# EAGLE library part 62001621821 (library Wurth_Elektronik2)
WR-PHD 2.00mm Dual Socket Header, 16 Pins=>Code : Con_BTB_SHD_2.00_2_62001621821 <http://katalog.we-online.de/media/thumbs2/eican/thb_Con_BTB_SHD_2.00_2_6200xx21821_pf2.jpg> Details see: http://katalog.we-online.de/en/em/620_0xx_218_21 Created 2014-06-03, Karrer Zheng 2014 (C) Würth Elektronik
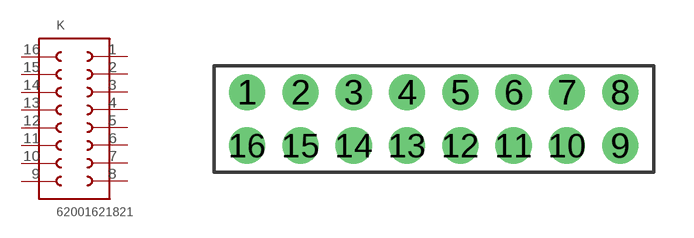
[diagram p259: symbol with the pads of 62001621821; footprint 62001621821]

Designator prefix K

## 62001621821  [62001621821]
1  1  pas
2  2  pas
3  3  pas
4  4  pas
5  5  pas
6  6  pas
7  7  pas
8  8  pas
9  9  pas
10  10  pas
11  11  pas
12  12  pas
13  13  pas
14  14  pas
15  15  pas
16  16  pas

## Footprint 62001621821 (pad centres in mm)
WR-PHD 2.00mm Dual Socket Header, 16 Pins
drill 0.85: 1 -7,1; 2 -5,1; 3 -3,1; 4 -1,1; 5 1,1; 6 3,1; 7 5,1; 8 7,1; 9 7,-1; 10 5,-1; 11 3,-1; 12 1,-1; 13 -1,-1; 14 -3,-1; 15 -5,-1; 16 -7,-1